# EAGLE library part LIS3D* (library LIS3D)
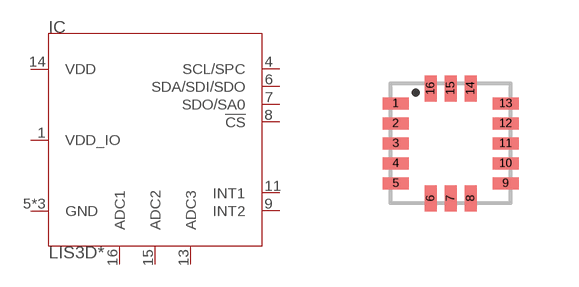
[diagram p0: symbol with the pads of LGA-16; footprint LGA-16]

Designator prefix IC

## LIS3D  [LGA-16]
1  VDD_IO
4  SCL/SPC
5  GND
6  SDA/SDI/SDO
7  SDO/SA0
8  !CS!
9  INT2
10  GND
11  INT1
12  GND
13  ADC3
14  VDD
15  ADC2
16  ADC1

## Footprint LGA-16 (pad centres in mm)
LGA-16 package
smd 0.65 x 0.3: 1 -1.375,1; 2 -1.375,0.5; 3 -1.375,0; 4 -1.375,-0.5; 5 -1.375,-1; 9 1.375,-1; 10 1.375,-0.5; 11 1.375,0; 12 1.375,0.5; 13 1.375,1
smd 0.3 x 0.65: 6 -0.5,-1.375; 7 0,-1.375; 8 0.5,-1.375; 14 0.5,1.375; 15 0,1.375; 16 -0.5,1.375